# EAGLE library part MAX9010 (library 030Card)
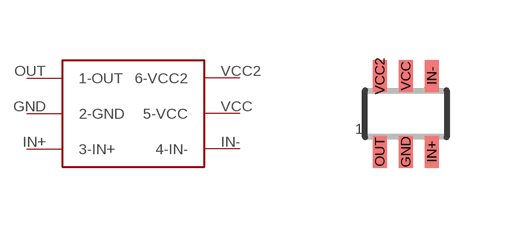
[diagram p5: symbol with the pads of MAX9010; footprint MAX9010]

Designator prefix -

## MAX9010  [MAX9010]
GND  2-GND
IN+  3-IN+
IN-  4-IN-
OUT  1-OUT
VCC  5-VCC
VCC2  6-VCC2

## Footprint MAX9010 (pad centres in mm)
6-Lead Thin Shrink Small Outline Transistor Package SC70 Source: http://www.analog.com/static/imported-files/data_sheets/ADA4853-1_4853-2_4853-3.pdf
smd 0.35 x 0.8: GND 0,-0.95; IN+ 0.65,-0.95; IN- 0.65,0.95; OUT -0.65,-0.95; VCC 0,0.95; VCC2 -0.65,0.95